# Altium footprint library CONN-SPE-DF12-30DS-0.5V.PcbLib: 1 footprints
Each footprint in its own frame and in the unit in brackets; x right, y up, seen from the top. Pads: shape width x height; smd on the part's side, far side on the other; paste and mask are expansions set on the pad; w line width, h text height; cw(c..) or ccw(c..) is an arc to the next point about the centre after c.
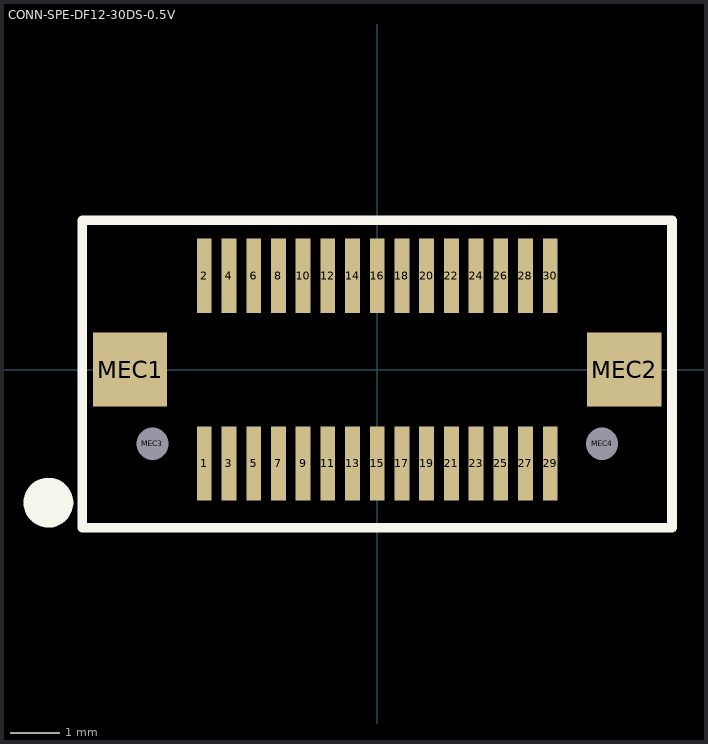
[diagram p0: the footprint, top view; thin cyan lines are the x and y axes]

## CONN-SPE-DF12-30DS-0.5V [mm]
pads (34):
  rect 0.3x1.5 smd: 1(-3.5,-1.9) 2(-3.5,1.9) 3(-3,-1.9) 4(-3,1.9) 5(-2.5,-1.9) 6(-2.5,1.9) 7(-2,-1.9) 8(-2,1.9) 9(-1.5,-1.9) 10(-1.5,1.9) 11(-1,-1.9) 12(-1,1.9) 13(-0.5,-1.9) 14(-0.5,1.9) 15(0,-1.9) 16(0,1.9) 17(0.5,-1.9) 18(0.5,1.9) 19(1,-1.9) 20(1,1.9) 21(1.5,-1.9) 22(1.5,1.9) 23(2,-1.9) 24(2,1.9) 25(2.5,-1.9) 26(2.5,1.9) 27(3,-1.9) 28(3,1.9) 29(3.5,-1.9) 30(3.5,1.9)
  rect 1.5x1.5 smd: MEC1(-5,0) MEC2(5,0)
  round 0.5 hole 0.65 unplated: MEC3(-4.55,-1.5) MEC4(4.55,-1.5)
Top Overlay:
  circle w0.5: c-6.655,-2.692 r0.254
  lines w0.2: -5.969,-3.2 5.969,-3.2 5.969,3.023 -5.969,3.023 -5.969,-3.2
3D body: height 2.7, standoff -0.6, extent -5.303,-2.306 5.297,2.294